# Altium schematic symbol library LM7905.SchLib: 1 symbol
Pins are listed as number, name and electrical type; pins without a type are passive.

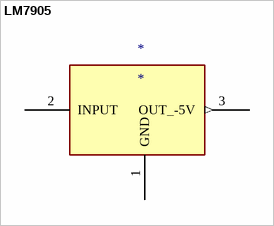
[diagram p0: symbol LM7905]

## LM7905
designator *
footprint TO-220
pins: 1 GND, 2 INPUT, 3 OUT_-5V (out)